# Altium schematic symbol library Resistors.SchLib: 8 symbols
Pins are listed as number, name and electrical type; pins without a type are passive.

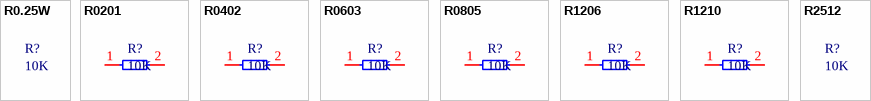
[diagram p0: symbols R0.25W to R2512]

## R0.25W
designator R?, comment 10K
footprint R0.25W

## R0201
designator R?, comment 10K
footprint R0201
pins: 1, 2

## R0402
designator R?, comment 10K
footprint R0402
pins: 1, 2

## R0603
designator R?, comment 10K
footprint R0603
pins: 1, 2

## R0805
designator R?, comment 10K
footprint R0805
pins: 1, 2

## R1206
designator R?, comment 10K
footprint R1206
pins: 1, 2

## R1210
designator R?, comment 10K
footprint R2010
pins: 1, 2

## R2512
designator R?, comment 10K
footprint R2512